# EAGLE library part TPS63060 (library Deegou_IC)
TPS63060 Single Inductor Buck-Boost Converter 2A Switches
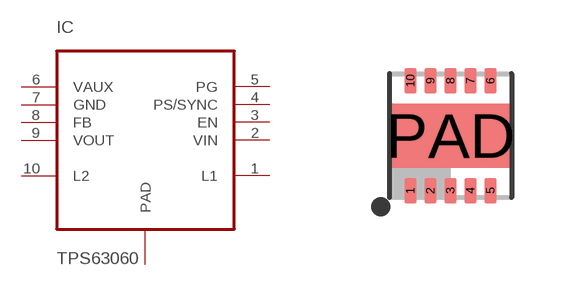
[diagram p89: symbol with the pads of R-PVSON-10N; footprint R-PVSON-10N]

Designator prefix IC

## TPS63060  [R-PVSON-10N]
1  L1  in
2  VIN  in
3  EN  in
4  PS/SYNC  in
5  PG  out
6  VAUX  in
7  GND  pwr
8  FB  in
9  VOUT  out
10  L2  in
PAD  PAD  pas

## Footprint R-PVSON-10N (pad centres in mm)
smd 0.3 x 0.65: 1 -1,-1.375; 2 -0.5,-1.375; 3 0,-1.375; 4 0.5,-1.375; 5 1,-1.375; 6 1,1.375; 7 0.5,1.375; 8 0,1.375; 9 -0.5,1.375; 10 -1,1.375
smd 3 x 1.6: PAD 0,0